# Altium footprint library Cooper_DRQ125_DRQ127.PcbLib: 1 footprints
Each footprint in its own frame and in the unit in brackets; x right, y up, seen from the top. Pads: shape width x height; smd on the part's side, far side on the other; paste and mask are expansions set on the pad; w line width, h text height; cw(c..) or ccw(c..) is an arc to the next point about the centre after c.
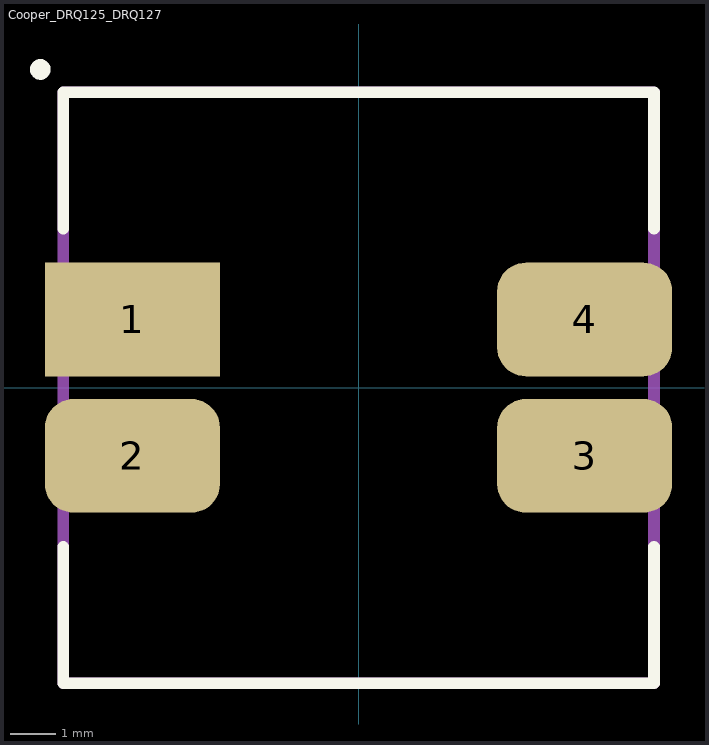
[diagram p0: the footprint, top view; thin cyan lines are the x and y axes]

## Cooper_DRQ125_DRQ127 [mm] "DRQ125 and DRQ127"
height 8
pads (4):
  rect 3.85x2.5 smd: 1(-4.975,1.5)
  rrect50% 3.85x2.5 smd: 2(-4.975,-1.5) 3(4.975,-1.5) 4(4.975,1.5)
Top Overlay:
  circle w0.254: c-7,7 r0.1
  lines w0.254: -6.5,-3.5 -6.5,-6.5 6.5,-6.5 6.5,-3.5 ; -6.5,3.5 -6.5,6.5 6.5,6.5 6.5,3.5
Mechanical 15:
  lines w0.254: -6.5,-6.5 -6.5,6.5 6.5,6.5 6.5,-6.5 -6.5,-6.5
3D body: height 0.2, standoff 0, extent -6.25,-6.25 6.25,6.25